# Altium footprint library PcbLib1.PcbLib: 41 footprints (part 3 of 3)
Each footprint in its own frame and in the unit in brackets; x right, y up, seen from the top. Pads: shape width x height; smd on the part's side, far side on the other; paste and mask are expansions set on the pad; w line width, h text height; cw(c..) or ccw(c..) is an arc to the next point about the centre after c.
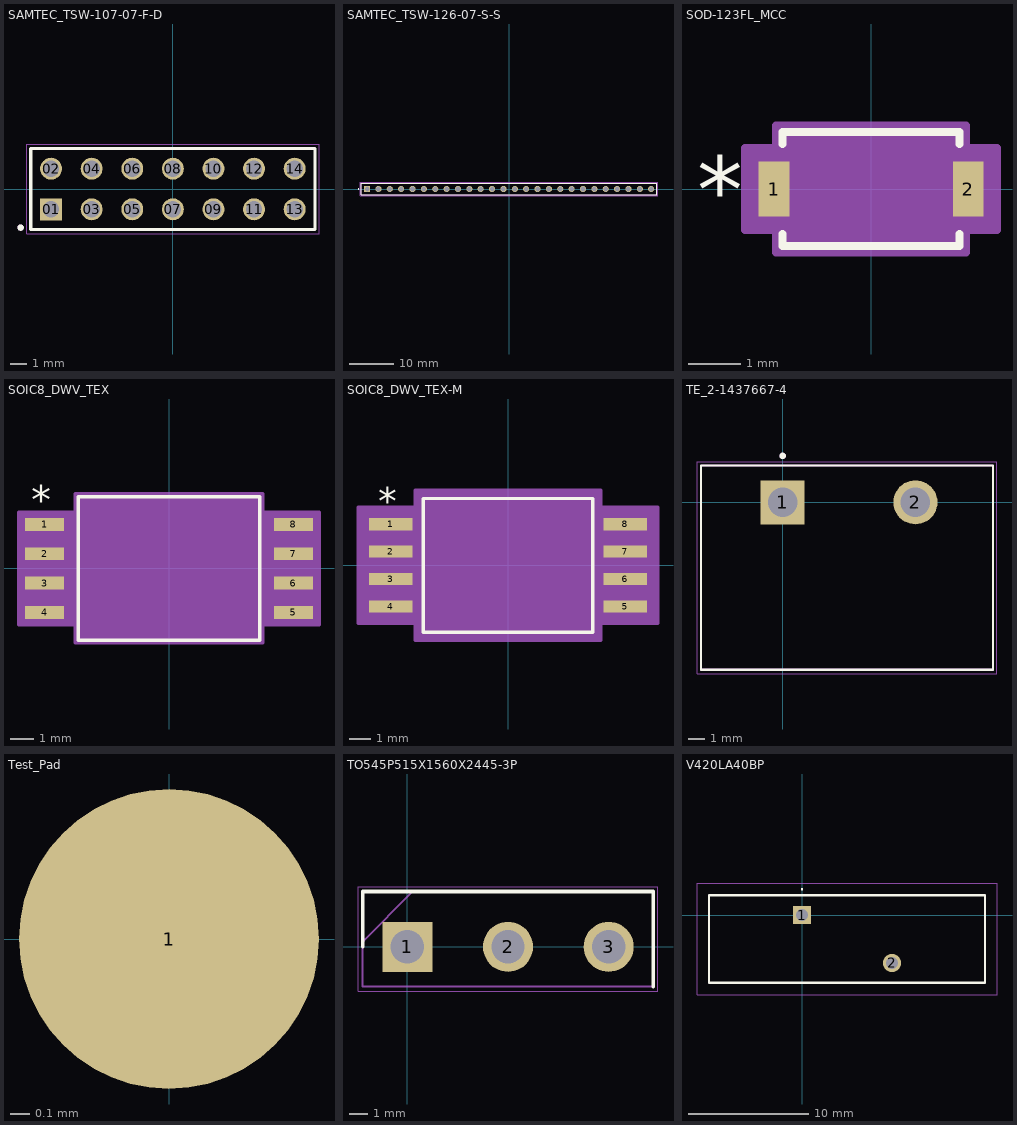
[diagram p2: the footprints below, top view; thin cyan lines are the x and y axes]

## SAMTEC_TSW-107-07-F-D [mm]
pads (14):
  rect 1.37x1.37 hole 1.02: 01(-7.62,-1.27)
  round 1.37 hole 1.02: 02(-7.62,1.27) 03(-5.08,-1.27) 04(-5.08,1.27) 05(-2.54,-1.27) 06(-2.54,1.27) 07(0,-1.27) 08(0,1.27) 09(2.54,-1.27) 10(2.54,1.27) 11(5.08,-1.27) 12(5.08,1.27) 13(7.62,-1.27) 14(7.62,1.27)
Top Overlay:
  circle w0.2: c-9.525,-2.413 r0.1
  lines w0.2: -8.89,-2.54 8.89,-2.54 8.89,2.54 -8.89,2.54 -8.89,-2.54
Mechanical 13:
  circle w0.2: c-9.525,-2.413 r0.1
  lines w0.1: -8.89,-2.54 -8.89,2.54 ; -8.89,-2.54 8.89,-2.54 ; -8.89,-2.54 -8.89,2.54 ; -8.89,2.54 8.89,2.54 ; -8.89,2.54 8.89,2.54 ; 8.89,-2.54 8.89,2.54 ; 8.89,-2.54 8.89,2.54
Mechanical 15:
  lines w0.05: -9.14,-2.79 9.14,-2.79 9.14,2.79 -9.14,2.79 -9.14,-2.79

## SAMTEC_TSW-126-07-S-S [mm]
pads (26):
  rect 1.37x1.37 / inner round 1.37 / far side rect 1.37x1.37 hole 1.02: 01(-31.75,0)
  round 1.37 hole 1.02: 02(-29.21,0) 03(-26.67,0) 04(-24.13,0) 05(-21.59,0) 06(-19.05,0) 07(-16.51,0) 08(-13.97,0) 09(-11.43,0) 10(-8.89,0) 11(-6.35,0) 12(-3.81,0) 13(-1.27,0) 14(1.27,0) 15(3.81,0) 16(6.35,0) 17(8.89,0) 18(11.43,0) 19(13.97,0) 20(16.51,0) 21(19.05,0) 22(21.59,0) 23(24.13,0) 24(26.67,0) 25(29.21,0) 26(31.75,0)
Top Overlay:
  circle w0.2: c-33.67,0 r0.1
  lines w0.2: -33.02,-1.27 33.02,-1.27 33.02,1.27 -33.02,1.27 -33.02,-1.27
Mechanical 13:
  circle w0.2: c-33.67,0 r0.1
  lines w0.1: -33.02,-1.27 -33.02,1.27 ; -33.02,-1.27 33.02,-1.27 ; -33.02,-1.27 -33.02,1.27 ; -33.02,1.27 33.02,1.27 ; -33.02,1.27 33.02,1.27 ; 33.02,-1.27 33.02,1.27 ; 33.02,-1.27 33.02,1.27
Mechanical 15:
  lines w0.05: -33.27,-1.52 33.27,-1.52 33.27,1.52 -33.27,1.52 -33.27,-1.52

## SOD-123FL_MCC [mil]
pads (2):
  rect 23x41 smd paste+0 mask+0: 1(-72.5,0) 2(72.5,0)
Top Overlay:
  lines w6: -66,-33.6 -66,-42.5 66,-42.5 66,-33.6 ; -66,33.6 -66,42.5 66,42.5 66,33.6
  text "*" at -130,-25 h50
Mechanical 13:
  lines w1: -61,-18.75 -42.25,-37.5 ; -61,18.75 -42.25,37.5 ; -76,-20.5 -76,20.5 -61,20.5 -61,-20.5 -76,-20.5 ; -61,-37.5 61,-37.5 61,37.5 -61,37.5 -61,-37.5 ; 61,-20.5 61,20.5 76,20.5 76,-20.5 61,-20.5
Mechanical 15:
  region: -71,-30.5 -94,-30.5 -94,30.5 -71,30.5 -71,47.5 71,47.5 71,30.5 94,30.5 94,-30.5 71,-30.5 71,-47.5 -71,-47.5
  lines w6: -94,-30.5 -94,30.5 -71,30.5 -71,47.5 71,47.5 71,30.5 94,30.5 94,-30.5 71,-30.5 71,-47.5 -71,-47.5 -71,-30.5 -94,-30.5
3D body "SOD-123FL_MCC.step": height 53.27, standoff 0, extent -75.98,-37.48 75.98,37.48

## SOIC8_DWV_TEX [mil]
pads (8):
  rect 67x22 smd paste+0 mask+0: 1(-212,75) 2(-212,25) 3(-212,-25) 4(-212,-75) 5(212,-75) 6(212,-25) 7(212,25) 8(212,75)
Top Overlay:
  lines w6: -154.5,-122 154.5,-122 154.5,122 -154.5,122 -154.5,-122
  text "*" at -234.5,92 h50
Mechanical 13:
  lines w0: -12,117 ccw(c0,117) 12,117
  lines w1: -231.5,-85 -231.5,-65 -149.5,-65 -149.5,-85 -231.5,-85 ; -231.5,-35 -231.5,-15 -149.5,-15 -149.5,-35 -231.5,-35 ; -231.5,15 -231.5,35 -149.5,35 -149.5,15 -231.5,15 ; -231.5,65 -231.5,85 -149.5,85 -149.5,65 -231.5,65 ; -149.5,-117 149.5,-117 149.5,117 -149.5,117 -149.5,-117 ; 149.5,-85 149.5,-65 231.5,-65 231.5,-85 149.5,-85 ; 149.5,-35 149.5,-15 231.5,-15 231.5,-35 149.5,-35 ; 149.5,15 149.5,35 231.5,35 231.5,15 149.5,15 ; 149.5,65 149.5,85 231.5,85 231.5,65 149.5,65
Mechanical 15:
  region: -159.5,-96 -255.5,-96 -255.5,96 -159.5,96 -159.5,127 159.5,127 159.5,96 255.5,96 255.5,-96 159.5,-96 159.5,-127 -159.5,-127
  lines w6: -255.5,-96 -255.5,96 -159.5,96 -159.5,127 159.5,127 159.5,96 255.5,96 255.5,-96 159.5,-96 159.5,-127 -159.5,-127 -159.5,-96 -255.5,-96
3D body "SOIC8_DWV_TEX.step": height 110.12, standoff 0, extent -231.5,-117.01 231.5,117.01

## SOIC8_DWV_TEX-M [mil]
pads (8):
  rect 79x22 smd paste+0 mask+0: 1(-214,75) 2(-214,25) 3(-214,-25) 4(-214,-75) 5(214,-75) 6(214,-25) 7(214,25) 8(214,75)
Top Overlay:
  lines w6: -154.5,-122 154.5,-122 154.5,122 -154.5,122 -154.5,-122
  text "*" at -236.5,92 h50
Mechanical 13:
  lines w0: -12,117 ccw(c0,117) 12,117
  lines w1: -231.5,-85 -231.5,-65 -149.5,-65 -149.5,-85 -231.5,-85 ; -231.5,-35 -231.5,-15 -149.5,-15 -149.5,-35 -231.5,-35 ; -231.5,15 -231.5,35 -149.5,35 -149.5,15 -231.5,15 ; -231.5,65 -231.5,85 -149.5,85 -149.5,65 -231.5,65 ; -149.5,-117 149.5,-117 149.5,117 -149.5,117 -149.5,-117 ; 149.5,-85 149.5,-65 231.5,-65 231.5,-85 149.5,-85 ; 149.5,-35 149.5,-15 231.5,-15 231.5,-35 149.5,-35 ; 149.5,15 149.5,35 231.5,35 231.5,15 149.5,15 ; 149.5,65 149.5,85 231.5,85 231.5,65 149.5,65
Mechanical 15:
  region: -169.5,-106 -273.5,-106 -273.5,106 -169.5,106 -169.5,137 169.5,137 169.5,106 273.5,106 273.5,-106 169.5,-106 169.5,-137 -169.5,-137
  lines w6: -273.5,-106 -273.5,106 -169.5,106 -169.5,137 169.5,137 169.5,106 273.5,106 273.5,-106 169.5,-106 169.5,-137 -169.5,-137 -169.5,-106 -273.5,-106
3D body "SOIC8_DWV_TEX.step": height 110.12, standoff 0, extent -231.5,-117.01 231.5,117.01

## TE_2-1437667-4 [mil]
pads (2):
  rect 108x108 hole 72: 1(0,0)
  round 108 hole 72: 2(325,0)
Top Overlay:
  circle w7.87: c0,113.78 r3.94
  lines w5: -200,-410 515,-410 515,90 -200,90 -200,-410
Mechanical 13:
  circle w7.87: c0,113.78 r3.94
  lines w5: -200,-410 515,-410 515,90 -200,90 -200,-410
Mechanical 15:
  lines w1.97: -209.84,-419.84 -209.84,99.84 524.84,99.84 524.84,-419.84 -209.84,-419.84
3D body "c-2-1437667-4-n-3d.stp": height 570, standoff -160, extent -200.02,-409.45 514.98,90.55

## Test_Pad [mil]
pads (1):
  round 60 smd: 1(0,0)

## TO545P515X1560X2445-3P [mm]
pads (3):
  rect 2.715x2.715 / inner round 2.715 / far side rect 2.715x2.715 hole 1.81: 1(0,0)
  round 2.715 hole 1.81: 2(5.45,0) 3(10.9,0)
Top Overlay:
  lines w0.2: -2.425,0 -2.425,3 13.325,3 13.325,-2.15
Mechanical 15:
  lines w0.1: -2.425,0.275 0.3,3 ; -2.425,-2.15 -2.425,3 13.325,3 13.325,-2.15 -2.425,-2.15
Mechanical 20:
  lines w0.05: -2.675,-2.4 -2.675,3.25 13.575,3.25 13.575,-2.4 -2.675,-2.4
3D body "STGW20NC60VD.step": height 25.1, standoff -10, extent -2.3,-2.1 13.3,2.9

## V420LA40BP [mm]
pads (2):
  rect 1.515x1.515 hole 1.01: 1(0,0)
  round 1.515 hole 1.01: 2(7.5,-4)
Top Overlay:
  lines w0.1: 0,2.1 cw(c0,2.15) 0,2.2 cw(c0,2.15) 0,2.1
  lines w0.2: -7.75,-5.65 15.25,-5.65 15.25,1.65 -7.75,1.65 -7.75,-5.65
Mechanical 15:
  lines w0.1: -7.75,-5.65 15.25,-5.65 15.25,1.65 -7.75,1.65 -7.75,-5.65
Mechanical 20:
  lines w0.1: -8.75,-6.65 16.25,-6.65 16.25,2.65 -8.75,2.65 -8.75,-6.65
3D body "V420LA40BP.stp": height 27.97, standoff -25.4, extent -7.8,-7.4 15.2,3.4